# Altium footprint library Capacitor - RF.PcbLib: 3 footprints
Each footprint in its own frame and in the unit in brackets; x right, y up, seen from the top. Pads: shape width x height; smd on the part's side, far side on the other; paste and mask are expansions set on the pad; w line width, h text height; cw(c..) or ccw(c..) is an arc to the next point about the centre after c.
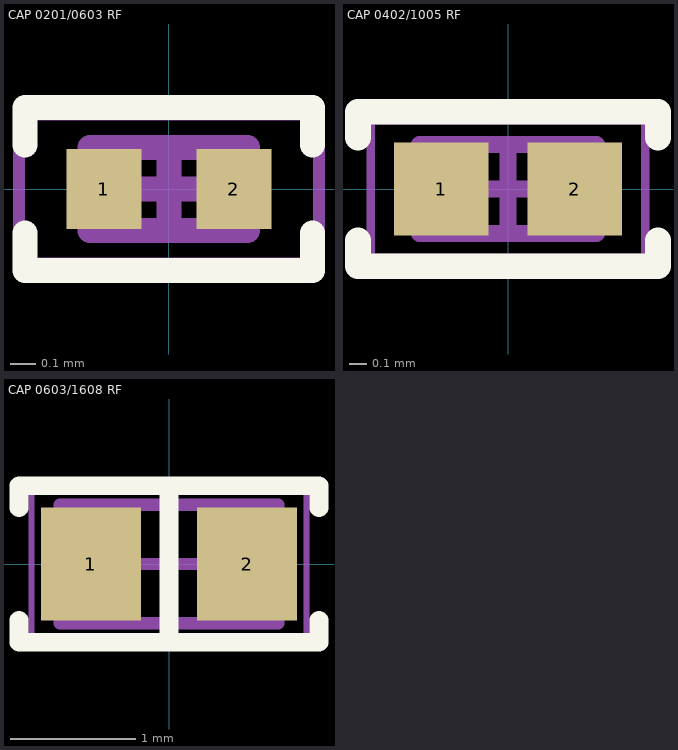
[diagram p0: the footprints below, top view; thin cyan lines are the x and y axes]

## CAP 0201/0603 RF [mm] "Chip Capacitor, 2-Leads, Body 0.60x0.30mm, IPC High Density"
height 0.33
pads (2):
  rect 0.3x0.32 smd: 1(-0.26,0) 2(0.26,0)
Top Overlay:
  lines w0.1: -0.575,-0.175 -0.575,-0.325 0.575,-0.325 0.575,-0.175 ; -0.575,0.175 -0.575,0.325 0.575,0.325 0.575,0.175
Mechanical 13:
  lines w0.1: -0.315,-0.165 -0.315,0.165 0.315,0.165 0.315,-0.165 -0.315,-0.165
Mechanical 15:
  lines w0.05: -0.6,-0.3 -0.6,0.3 0.6,0.3 0.6,-0.3 -0.6,-0.3
  lines w0.1: -0.165,0 0.165,0 ; 0,-0.165 0,0.165
3D body "CAP 0201.STEP": height 0.3, standoff 0, extent -0.3,-0.15 0.3,0.15

## CAP 0402/1005 RF [mm] "Chip Capacitor, 2-Leads, Body 1.02x0.51mm, IPC High Density"
height 0.52
pads (2):
  rect 0.55x0.54 smd: 1(-0.39,0) 2(0.39,0)
Top Overlay:
  lines w0.15: -0.875,-0.3 -0.875,-0.45 0.875,-0.45 0.875,-0.3 ; -0.875,0.3 -0.875,0.45 0.875,0.45 0.875,0.3
Mechanical 13:
  lines w0.1: -0.515,-0.26 0.515,-0.26 0.515,0.26 -0.515,0.26 -0.515,-0.26
Mechanical 15:
  lines w0.05: -0.8,-0.4 0.8,-0.4 0.8,0.4 -0.8,0.4 -0.8,-0.4
  lines w0.1: -0.26,0 0.26,0 ; 0,-0.26 0,0.26
3D body "0402 cap.STEP": height 0.52, standoff 0, extent -0.5,-0.262 0.5,0.262

## CAP 0603/1608 RF [mm] "Chip Capacitor, 2-Leads, Body 1.60x0.80mm, IPC High Density"
height 0.89
pads (2):
  rect 0.8x0.9 smd: 1(-0.625,0) 2(0.625,0)
Top Overlay:
  lines w0.15: -1.2,-0.45 -1.2,-0.625 1.2,-0.625 1.2,-0.45 ; -1.2,0.45 -1.2,0.625 1.2,0.625 1.2,0.45 ; 0,-0.625 0,0.625
Mechanical 13:
  lines w0.1: -0.875,-0.475 0.875,-0.475 0.875,0.475 -0.875,0.475 -0.875,-0.475
Mechanical 15:
  lines w0.05: -1.1,-0.6 1.1,-0.6 1.1,0.6 -1.1,0.6 -1.1,-0.6
  lines w0.1: -0.475,0 0.475,0 ; 0,-0.475 0,0.475
3D body "0603 cap.STEP": height 0.82, standoff 0, extent -0.8,-0.412 0.8,0.412